# Altium footprint library NeoIVClock.PcbLib: 43 footprints (part 1 of 3)
Each footprint in its own frame and in the unit in brackets; x right, y up, seen from the top. Pads: shape width x height; smd on the part's side, far side on the other; paste and mask are expansions set on the pad; w line width, h text height; cw(c..) or ccw(c..) is an arc to the next point about the centre after c.
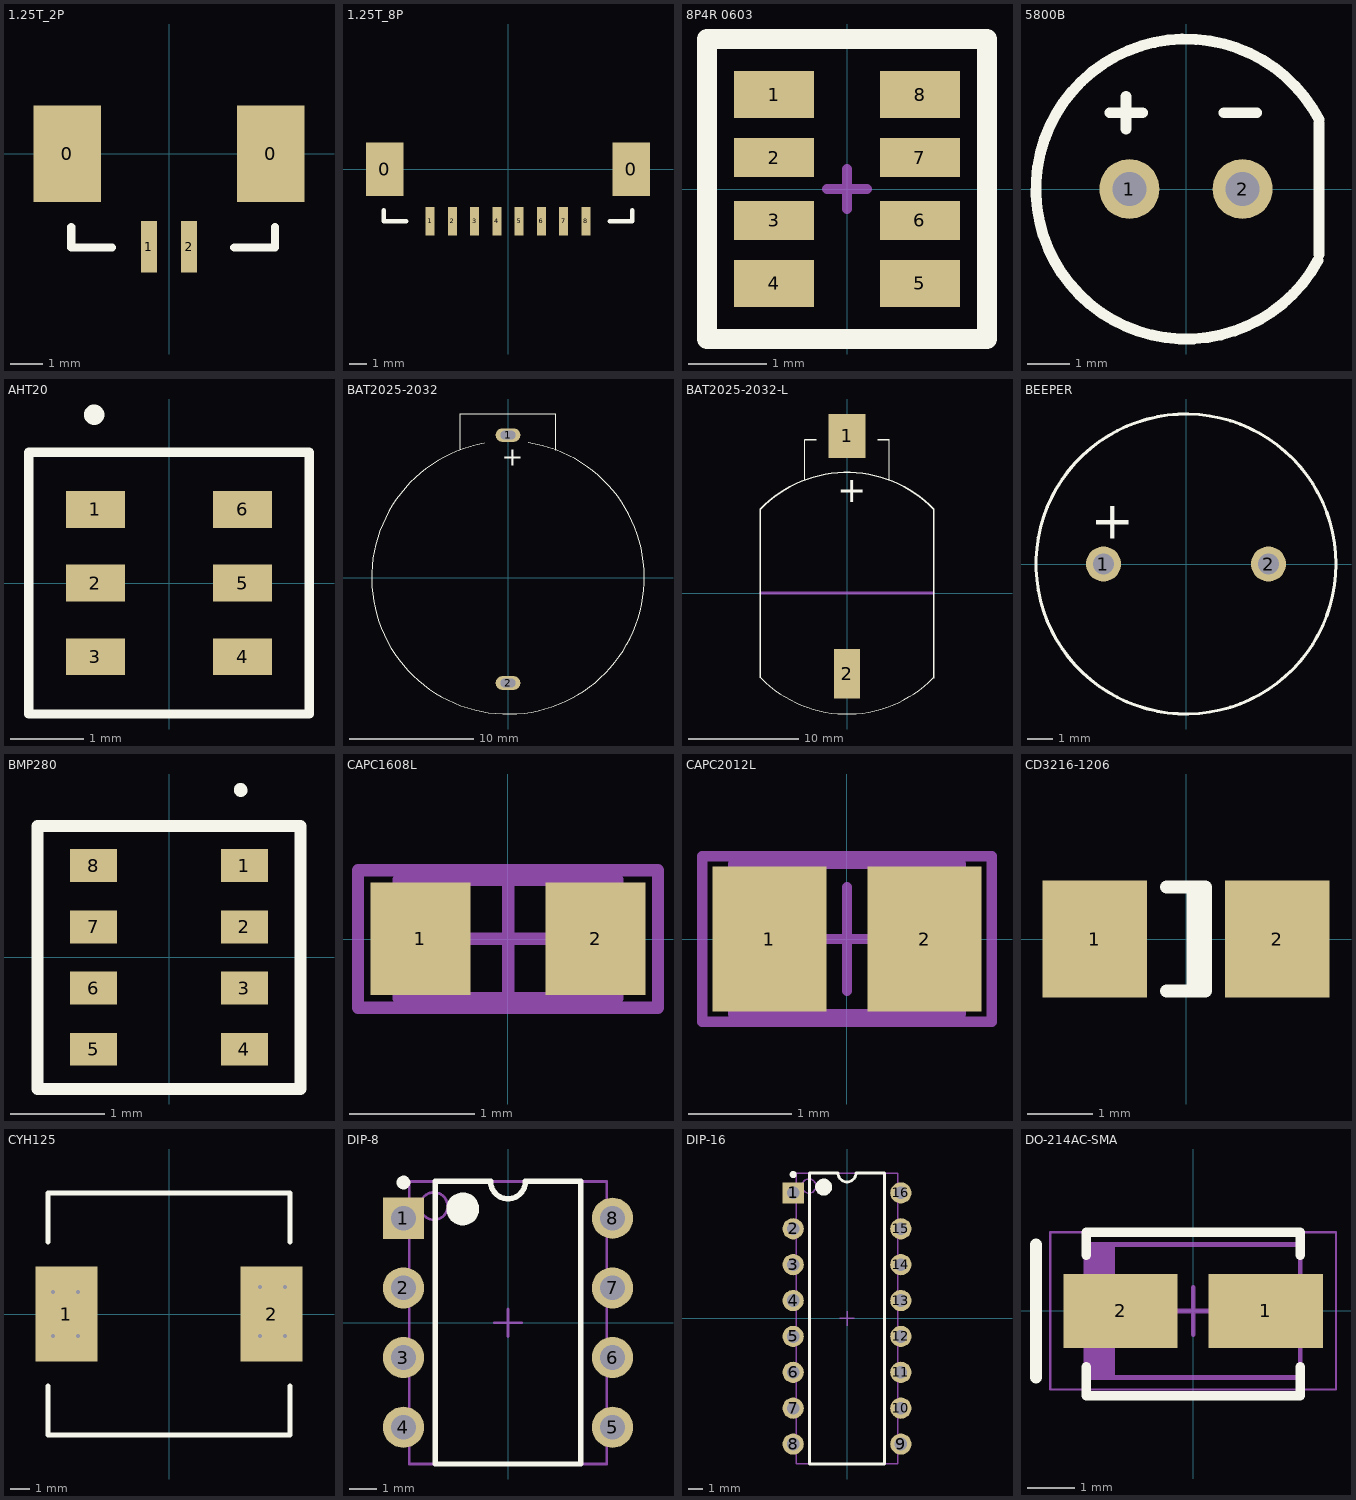
[diagram p0: the footprints below, top view; thin cyan lines are the x and y axes]

## 1.25T_2P [mm]
pads (4):
  rect 2.1x3 smd: 0(-3.175,0) 0(3.175,0)
  rect 0.5x1.6 smd: 1(-0.625,-2.9) 2(0.625,-2.9)
Top Overlay:
  lines w0.254: -3.048,-2.286 -3.048,-2.921 -1.778,-2.921 ; 2.032,-2.921 3.302,-2.921 3.302,-2.286

## 1.25T_8P [mm]
pads (10):
  rect 2.1x3 smd: 0(-6.925,0) 0(6.925,0)
  rect 0.5x1.6 smd: 1(-4.375,-2.9) 2(-3.125,-2.9) 3(-1.875,-2.9) 4(-0.625,-2.9) 5(0.625,-2.9) 6(1.875,-2.9) 7(3.125,-2.9) 8(4.375,-2.9)
Top Overlay:
  lines w0.254: -6.985,-2.286 -6.985,-2.921 -5.715,-2.921 ; 5.715,-2.921 6.985,-2.921 6.985,-2.286

## 8P4R 0603 [mm] "1/10W贴片排阻"
pads (8):
  rect 1.016x0.6 smd: 1(-0.927,1.2) 4(-0.927,-1.2) 5(0.927,-1.2) 8(0.927,1.2)
  rect 1.016x0.5 smd: 2(-0.927,0.4) 3(-0.927,-0.4) 6(0.927,-0.4) 7(0.927,0.4)
Top Overlay:
  lines w0.254: -1.778,-1.905 -1.778,1.905 1.778,1.905 1.778,-1.905 -1.778,-1.905
Mechanical 15:
  lines w0.127: -0.254,0 0.254,0 ; 0,-0.254 0,0.254

## 5800B [mm]
pads (2):
  round 1.4 hole 0.8: 1(-1.32,0) 2(1.32,0)
Top Overlay:
  lines w0.254: -1.778,1.778 -1.016,1.778 ; -1.397,1.397 -1.397,2.159 ; 0.889,1.778 1.651,1.778 ; 3.078,-1.667 cw(c0,0) 3.105,1.615 ; 3.105,-1.524 3.105,1.524

## AHT20 [mm] "AHT20"
pads (6):
  rect 0.8x0.5 smd: 1(-1,1) 2(-1,0) 3(-1,-1) 4(1,-1) 5(1,0) 6(1,1)
Top Overlay:
  circle w0.254: c-1.016,2.286 r0.01
  lines w0.127: -1.905,-1.778 -1.905,1.778 1.905,1.778 1.905,-1.778 -1.905,-1.778
3D body: height 1, standoff 0, extent -1.397,-1.524 1.397,1.524

## BAT2025-2032 [mm]
pads (2):
  oval 2x1.1 hole 0.7 slot 1.2 at 0 deg: 1(0,11.5) 2(0,-8.5)
Top Overlay:
  lines w0.1: -3.85,10.316 -3.85,13.2 3.85,13.2 3.85,10.287 ; -1.912,10.833 ccw(c0,0) 1.624,10.879
  text "+" at -0.508,9.017 h1.52

## BAT2025-2032-L [mm]
pads (2):
  rect 3.4x4 smd: 1(0,14.3)
  rect 2.4x4.5 smd: 2(0,-7.35)
Top Overlay:
  lines w0.1: -7.842,-7.714 ccw(c0,0) 7.848,-7.708 ; -3.85,10.316 -3.85,13.95 ; 3.85,10.287 3.85,13.95
  lines w0.127: -7.905,7.65 cw(c0,0) 7.905,7.65 ; -7.874,-7.714 -7.874,0 -7.874,7.62 ; -3.85,13.95 -2.794,13.95 ; 2.814,13.95 3.85,13.95 ; 7.874,-7.747 7.874,0 7.874,7.62
  text "+" at -0.889,7.493 h4
Mechanical 15:
  lines w0.254: -7.85,0 0,0 7.85,0

## BEEPER [mm] "BEEPER"
pads (2):
  round 1.4 hole 0.85: 1(-3.3,0) 2(3.3,0)
Top Overlay:
  circle w0.127: c0,0 r6
  text "+" at -3.81,1.016 h1.52

## BMP280 [mm]
pads (8):
  rect 0.5x0.35 smd: 1(0.8,0.975) 2(0.8,0.325) 3(0.8,-0.325) 4(0.8,-0.975) 5(-0.8,-0.975) 6(-0.8,-0.325) 7(-0.8,0.325) 8(-0.8,0.975)
Top Overlay:
  lines w0.127: 0.764,1.788 ccw(c0.762,1.778) 0.772,1.778 ; -1.397,-1.397 -1.397,1.397 1.397,1.397 1.397,-1.397 -1.397,-1.397
3D body: height 1, standoff 0, extent -1.016,-1.143 1.016,1.143

## CAPC1608L [mm] "Chip Capacitor, Body 1.6x0.8mm, IPC High Density"
height 0.85
pads (2):
  rect 0.8x0.9 smd: 1(-0.7,0) 2(0.7,0)
Mechanical 13:
  lines w0.1: -0.875,-0.475 -0.875,0.475 0.875,0.475 0.875,-0.475 -0.875,-0.475
Mechanical 15:
  lines w0.1: -0.475,0 0.475,0 ; 0,-0.475 0,0.475 ; -1.2,-0.55 -1.2,0.55 1.2,0.55 1.2,-0.55 -1.2,-0.55
3D body: height 0.85, standoff 0, extent -0.875,-0.475 0.875,0.475

## CAPC2012L [mm] "Chip Capacitor, Body 2.0x1.3mm, IPC High Density"
height 1.1
pads (2):
  rect 1.1x1.4 smd: 1(-0.75,0) 2(0.75,0)
Mechanical 13:
  lines w0.1: -1.1,-0.725 1.1,-0.725 1.1,0.725 -1.1,0.725 -1.1,-0.725
Mechanical 15:
  lines w0.1: -0.5,0 0.5,0 ; 0,-0.5 0,0.5 ; -1.4,-0.8 1.4,-0.8 1.4,0.8 -1.4,0.8 -1.4,-0.8
3D body: height 1.1, standoff 0, extent -1.1,-0.725 1.1,0.725

## CD3216-1206 [mm] "Chip Diode; Body 3.2 x 1.6 mm (LxW typ)"
height 1.35
pads (2):
  rect 1.6x1.8 smd: 1(-1.4,0) 2(1.4,0)
Top Overlay:
  lines w0.2: -0.3,-0.8 0.3,-0.8 0.3,0.8 -0.3,0.8 ; 0.11,-0.8 0.11,0.8

## CYH125 [mm] "CYH125 Inductor"
pads (2):
  rect 3.2x4.9 smd: 1(-5.3,0) 2(5.3,0)
via 6,-1.14 diameter 0.4 hole 0.2
via 4.7,-1.14 diameter 0.4 hole 0.2
via 6,1.4 diameter 0.4 hole 0.2
via 4.7,1.4 diameter 0.4 hole 0.2
via -4.7,-1.14 diameter 0.4 hole 0.2
via -6,-1.14 diameter 0.4 hole 0.2
via -4.7,1.14 diameter 0.4 hole 0.2
via -6,1.14 diameter 0.4 hole 0.2
Top Overlay:
  lines w0.254: -6.25,-3.71 -6.25,-6.25 6.25,-6.25 6.25,-3.71 ; -6.25,3.71 -6.25,6.25 6.25,6.25 6.25,3.71
Bottom Solder:
  rectangle: -6.985,-2.54 -3.556,2.54
  rectangle: 3.556,-2.54 6.985,2.54

## DIP-8 [mm] "DIP; 8 Leads; Row Spacing 7.62 mm; Pitch 2.54 mm"
height 5.08
pads (8):
  rect 1.5x1.5 hole 0.9: 1(-3.81,3.81)
  round 1.5 hole 0.9: 2(-3.81,1.27) 3(-3.81,-1.27) 4(-3.81,-3.81) 5(3.81,-3.81) 6(3.81,-1.27) 7(3.81,1.27) 8(3.81,3.81)
Top Overlay:
  circle w0.6: c-1.65,4.15 r0.3
  circle w0.25: c-3.81,5.11 r0.125
  lines w0.2: -2.65,-5.15 2.65,-5.15 2.65,5.15 0.635,5.15 cw(c0,5.15) -0.635,5.15 -2.65,5.15 -2.65,-5.15
Mechanical 13:
  circle w0.1: c-2.7,4.25 r0.5
  lines w0.1: -3.6,-5.15 3.6,-5.15 3.6,5.15 -3.6,5.15 -3.6,-5.15
Mechanical 15:
  lines w0.1: -0.5,0 0.5,0 ; 0,-0.5 0,0.5
3D body: height 5.08, standoff 0, extent -3.6,-5.15 3.6,5.15

## DIP-16 [mm] "DIP; 16 Leads; Row Spacing 7.62 mm; Pitch 2.54 mm"
height 5.08
pads (16):
  rect 1.5x1.5 hole 0.9: 1(-3.81,8.89)
  round 1.5 hole 0.9: 2(-3.81,6.35) 3(-3.81,3.81) 4(-3.81,1.27) 5(-3.81,-1.27) 6(-3.81,-3.81) 7(-3.81,-6.35) 8(-3.81,-8.89) 9(3.81,-8.89) 10(3.81,-6.35) 11(3.81,-3.81) 12(3.81,-1.27) 13(3.81,1.27) 14(3.81,3.81) 15(3.81,6.35) 16(3.81,8.89)
Top Overlay:
  circle w0.25: c-3.81,10.19 r0.125
  circle w0.6: c-1.65,9.3 r0.3
  lines w0.2: -2.65,-10.3 -2.65,10.3 -0.635,10.3 ccw(c0,10.3) 0.635,10.3 2.65,10.3 2.65,-10.3 -2.65,-10.3
Mechanical 13:
  circle w0.1: c-2.7,9.375 r0.5
  lines w0.1: -3.6,-10.275 -3.6,10.275 3.6,10.275 3.6,-10.275 -3.6,-10.275
Mechanical 15:
  lines w0.1: -0.5,0 0.5,0 ; 0,-0.5 0,0.5
3D body: height 5.08, standoff 0, extent -3.6,-10.275 3.6,10.275

## DO-214AC-SMA [mm] "Molded Diode, 2-Leads, Body 4.25x2.67mm, IPC Medium Density"
height 2.29
pads (2):
  rect 2.4x1.55 smd: 1(1.525,0) 2(-1.525,0)
Top Overlay:
  lines w0.2: -2.25,-1.175 -2.25,-1.778 2.25,-1.778 2.25,-1.175 ; -2.25,1.175 -2.25,1.651 2.25,1.651 2.25,1.175
  lines w0.254: -3.302,-1.397 -3.302,1.397
Mechanical 13:
  rectangle: -2.25,-1.395 -1.645,1.395
  lines w0.1: -2.25,-1.395 -2.25,1.395 2.25,1.395 2.25,-1.395 -2.25,-1.395
Mechanical 15:
  lines w0.05: -3,-1.65 -3,1.65 3,1.65 3,-1.65 -3,-1.65
  lines w0.1: -0.5,0 0.5,0 ; 0,-0.5 0,0.5
3D body: height 2.29, standoff 0, extent -2.25,-1.395 2.25,1.395